# Altium schematic symbol library UPS_sch_lib.SchLib: 17 symbols
Pins are listed as number, name and electrical type; pins without a type are passive.

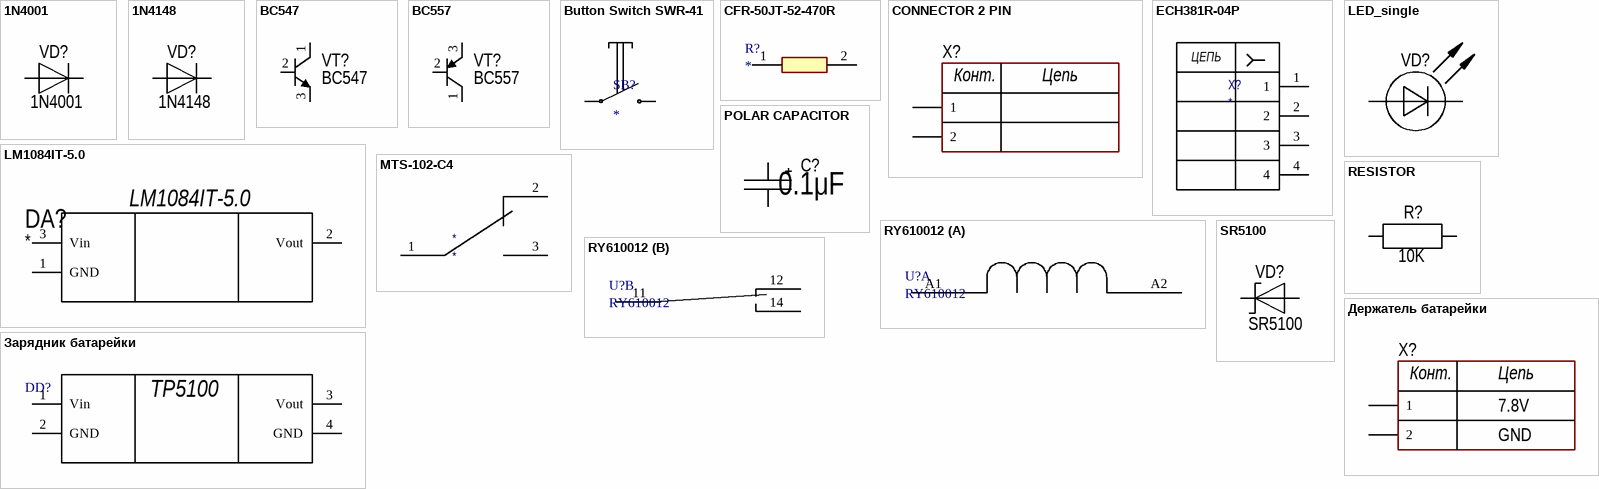
[diagram p0: symbols 1N4001 to Зарядник батарейки]

## 1N4001
designator VD?  PartNumber: 1N4001
Manufacturer: Micro Commercial; ValueManufacturerPartNumber: Single diode, 75V, 150mA, 1V, 4ns, SOD-323, -55...+150°C; TypeDiode: Single diode; Voltage: 75V; Current: 150mA; VoltageDrop: 1V; RecoveryTime: 4ns; Package: SOD-323; HelpURL: https://www.digikey.com/product-detail/en/micro-commercial-co/1N4148WX-TP/1N4148WXTPMSCT-ND/717312; Temperature: -55...+150°C
footprint 1N4001 DO-41 (2-Leads, Axial Lead, Body 4.635x2.36mm, Pin Spacing 9mm)
pins: 1, 2

## 1N4148
designator VD?  PartNumber: 1N4148
Manufacturer: Micro Commercial; ValueManufacturerPartNumber: Single diode, 75V, 150mA, 1V, 4ns, SOD-323, -55...+150°C; TypeDiode: Single diode; Voltage: 75V; Current: 150mA; VoltageDrop: 1V; RecoveryTime: 4ns; Package: SOD-323; HelpURL: https://www.digikey.com/product-detail/en/micro-commercial-co/1N4148WX-TP/1N4148WXTPMSCT-ND/717312; Temperature: -55...+150°C
footprint 1N4148 DO-35
pins: 1, 2

## BC547
designator VT?  PartNumber: BC547
Manufacturer: ON Semiconductor; ValueManufacturerPartNumber: NPN transistor, 45V, 100mA, 100MHz, 300mW, 0.6V, 420, SOT-23, -55...+125°C; TypeTransistor: NPN transistor; VoltageCE: 45V; CurrentCE: 100mA; VoltageSaturation: 0.6V; Frequency: 100MHz; CurrentGain: 420; MaxPower: 300mW; Package: SOT-23; HelpURL: https://www.digikey.com/product-detail/en/on-semiconductor/BC847CLT1G/BC847CLT1GOSCT-ND/917836; Temperature: -55...+125°C
footprint TO92 (TO, Flat Index; 3 In-Line, Axial Leads; Body Dia. 4.8mm; Leads 0.51 x 0.51 mm (max))
pins: 1 C, 2 B, 3 E

## BC557
designator VT?  PartNumber: BC557
Manufacturer: ON Semiconductor; ValueManufacturerPartNumber: PNP transistor, 45V, 100mA, 100MHz, 300mW, 0.65V, 220, SOT-23, -55...+125°C; TypeTransistor: PNP transistor; VoltageCE: 45V; CurrentCE: 100mA; VoltageSaturation: 0.65V; Frequency: 100MHz; CurrentGain: 220; MaxPower: 300mW; Package: SOT-23; HelpURL: https://www.digikey.com/product-detail/en/on-semiconductor/BC857BLT3G/BC857BLT3GOSCT-ND/2704963; Temperature: -55...+125°C
footprint TO92 (TO, Flat Index; 3 In-Line, Axial Leads; Body Dia. 4.8mm; Leads 0.51 x 0.51 mm (max))
pins: 1 C, 2 B, 3 E

## Button Switch SWR-41
designator SB?
footprint SWR-41 BUTTON
pins: 1 C, 2 NO

## CFR-50JT-52-470R
designator R?
Resistor; Manufacturer_Name: YAGEO (PHYCOMP); Manufacturer_Part_Number: CFR-50JT-52-470R; Description: Carbon Film Resistors - Through Hole 1/2W 470 Ohm 5%; Datasheet Link: https://componentsearchengine.com/Datasheets/1/CFR-50JT-52-470R.pdf; Mouser Part Number: 603-CFR-50JT-52-470R; Mouser Price/Stock: https://www.mouser.co.uk/ProductDetail/Yageo/CFR-50JT-52-470R?qs=KUIzHt%2Fe91kPIzbDkmuUcw%3D%3D
footprint RESAD2220W60L900D330
pins: 1, 2

## CONNECTOR 2 PIN
designator X?
Manufacturer: Degson; ValueManufacturerPartNumber: Terminal connector, 2pin, 3.5mm, 300VAC, 10A; PartNumber: DG350-3.5-02P-14; TypeConnector: Terminal connector; VoltageMax: 300VAC; Pitch: 3.5mm; CurrentMax: 10A; Multichannel: 2pin; CommentText: "Разъем"; HelpURL: https://www.chipdip.ru/product/dg350-3.5-02p-12
footprint KLS2-EDV-5.08-02P-4
footprint CON: WF-02
pins: 1, 2
text: Конт.; Цепь

## ECH381R-04P
designator X?
4-pin R connector
footprint ECH381R-04P (KLS2-EDR-3.81-04P-4)
pins: 1, 2 (oe), 3, 4 (oe)
text: ЦЕПЬ

## LED_single
designator VD?
ValueManufacturerPartNumber: LED, Green, *, *, *, -55...+150°C; TypeDiode: LED; ColorParameter: Green; Manufacturer: *; Package: *; HelpURL: *; Temperature: -55...+150°C; Current: *; VoltageDrop: *; PartNumber: *; Color: GREEN
footprint LED 1206
pins: 1 A, 2 C

## LM1084IT-5.0
designator DA?
footprint LM1084IT-5.0 (FM, 3-Leads, Body 10.7x4.7mm, Pitch 2.54mm)
pins: 1 GND, 2 Vout, 3 Vin

## MTS-102-C4
designator *
footprint MTS-102-C4
pins: 1, 2, 3

## POLAR CAPACITOR
designator C?  value 0.1μF
Manufacturer: Yageo; PartNumber: CC1206KRX7R9BB104; ValueManufacturerPartNumber: Ceramic capacitor, 0.1μF, X7R, ±10%, 25V, 1206, -55...+125°C; TypeCapacitor: Ceramic capacitor; Tolerance: ±10%; TypeDielectric: X7R; Voltage: 25V; Package: 1206; HelpURL: https://www.digikey.com/product-detail/en/yageo/CC1206KRX7R9BB104/311-1179-1-ND/303089; Temperature: -55...+125°C
footprint CAP 5*11 (THD, 2-Leads, Dia 5mm, Body Length 11mm)
pins: 1, 2

## RESISTOR
designator R?  value 10K
Manufacturer: Yageo; PartNumber: RC1206JR-07100RL; ValueManufacturerPartNumber: Resistor film, 10K, ±5%, 1206, 0.25W, -55...+125°C; TypeResistor: Resistor film; Power: 0.25W; Tolerance: ±5%; Package: 1206; HelpURL: https://www.digikey.com/product-detail/en/yageo/RC1206JR-07100RL/311-100ERCT-ND/732153; Temperature: -55...+125°C
footprint Резисторы
pins: 1, 2

## RY610012
designator U?
No Description Available; Vendor: TE Connectivity; Built_By: EMA_UL_Team; SourceLibrary: Tyco_2012-1-03; Manufacturer_Part_Number: RY610012; Copyright: Copyright (C) 2016 Accelerated Designs. All rights reserved; RefDes: RefDes; Type: DEV
footprint RELAY-SPDT_3.2mm
part A pins: A1, A2
part B pins: 11, 12, 14

## SR5100
designator VD?  PartNumber: SR5100
Manufacturer: Diodes Incorporated; Package: DO-27
footprint Диод Шоттки SR5100
pins: 1, 2

## Держатель батарейки
designator X?
footprint Держатель батарейки
footprint KLS2-EDV-5.08-02P-4
pins: 1, 2
text: Конт.; Цепь; 7.8V; GND

## Зарядник батарейки
designator DD?
footprint Зарядник батарейки (Ставится четыремя выводами на розетки PBS-02)
pins: 1 Vin, 2 GND, 3 Vout, 4 GND
text: TP5100